# EAGLE library part 18650-3S (library FansElectronics-Battery)
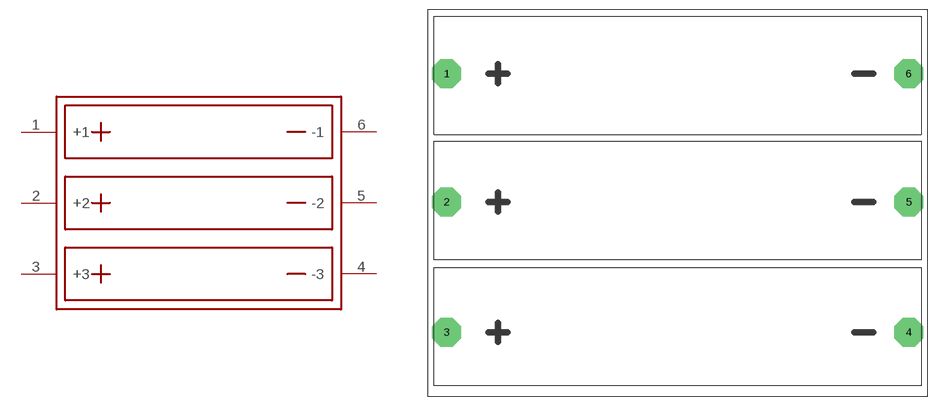
[diagram p0: symbol with the pads of 18650-3S; footprint 18650-3S]

Designator prefix BAT

## 18650-3S  [18650-3S]
1  +1  pwr
2  +2  pwr
3  +3  pwr
4  -3  pwr
5  -2  pwr
6  -1  pwr

## Footprint 18650-3S (pad centres in mm)
drill 2 pad 4.5 octagon: 1 -36.27,10; 2 -36.27,-10; 3 -36.27,-30.32; 4 35.73,-30.32; 5 35.73,-10; 6 35.73,10